# Altium schematic symbol library MGJ3T12.SchLib: 1 symbol
Pins are listed as number, name and electrical type; pins without a type are passive.

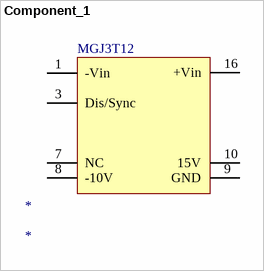
[diagram p0: symbol Component_1]

## Component_1
designator *
footprint PCBComponent_1
pins: 1 -Vin, 3 Dis/Sync, 7 NC, 8 -10V, 9 GND, 10 15V, 16 +Vin
text: MGJ3T12